# Altium footprint library Footprints.PcbLib: 1 footprints
Each footprint in its own frame and in the unit in brackets; x right, y up, seen from the top. Pads: shape width x height; smd on the part's side, far side on the other; paste and mask are expansions set on the pad; w line width, h text height; cw(c..) or ccw(c..) is an arc to the next point about the centre after c.
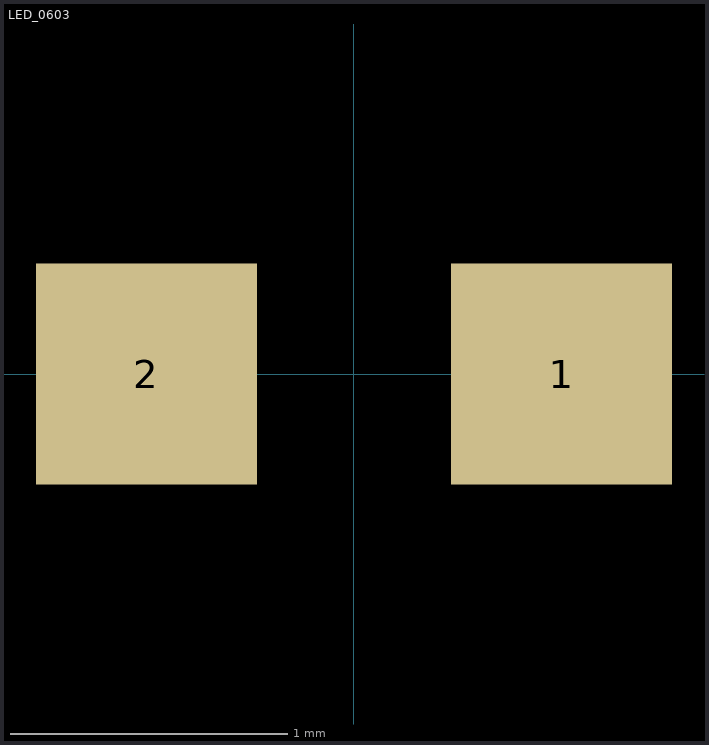
[diagram p0: the footprint, top view; thin cyan lines are the x and y axes]

## LED_0603 [mm]
pads (2):
  rect 0.8x0.8 smd: 1(0.75,0) 2(-0.75,0)
3D body: height 0.51, standoff 0, extent -1.27,-0.508 1.27,0.508